# EAGLE library part OLEDHEADER (library Arduino-Boards)
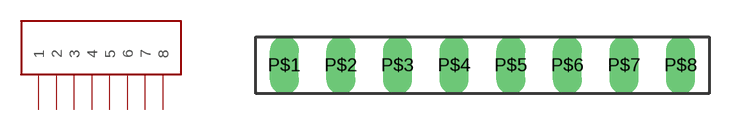
[diagram p3: symbol with the pads of OLEDHEADER; footprint OLEDHEADER]

Designator prefix -

## OLEDHEADER  [OLEDHEADER]
P$1  1
P$2  2
P$3  3
P$4  4
P$5  5
P$6  6
P$7  7
P$8  8

## Footprint OLEDHEADER (pad centres in mm)
drill 0.8 long: P$1 -8.89,1.27; P$2 -6.35,1.27; P$3 -3.81,1.27; P$4 -1.27,1.27; P$5 1.27,1.27; P$6 3.81,1.27; P$7 6.35,1.27; P$8 8.89,1.27